# EAGLE library part RJSSE5380 (library 2000dB)
RJSSE5380: http://www.amphenolcanada.com/ProductSearch/drawings/AC/RJSS5080.pdf
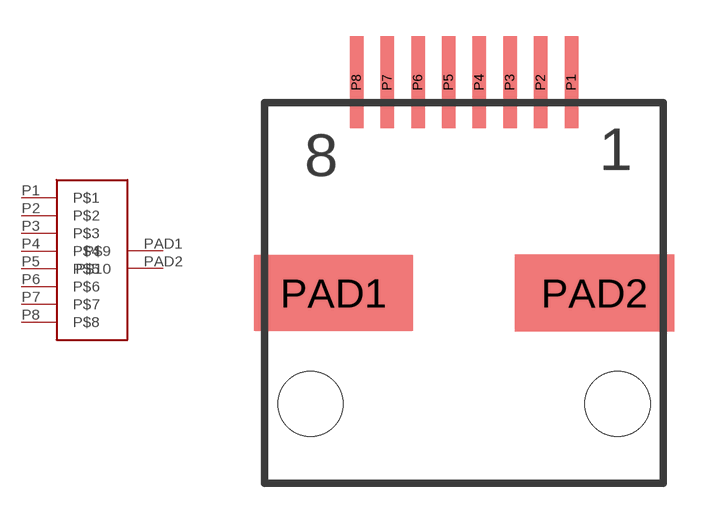
[diagram p1: symbol with the pads of RJSSE5380; footprint RJSSE5380]

Designator prefix -

## RJSSE5380  [RJSSE5380]
P1  P$1
P2  P$2
P3  P$3
P4  P$4
P5  P$5
P6  P$6
P7  P$7
P8  P$8
PAD1  P$9
PAD2  P$10

## Footprint RJSSE5380 (pad centres in mm)
smd 0.559 x 3.81: P1 4.445,8.725; P2 3.175,8.725; P3 1.905,8.725; P4 0.635,8.725; P5 -0.635,8.725; P6 -1.905,8.725; P7 -3.175,8.725; P8 -4.445,8.725
smd 6.604 x 3.175: PAD1 -5.397,0; PAD2 5.397,0
hole 2.692 at 6.35,-4.585
hole 2.692 at -6.35,-4.585